# EAGLE library part DF13-7P-1.25? (library pixhawk2)
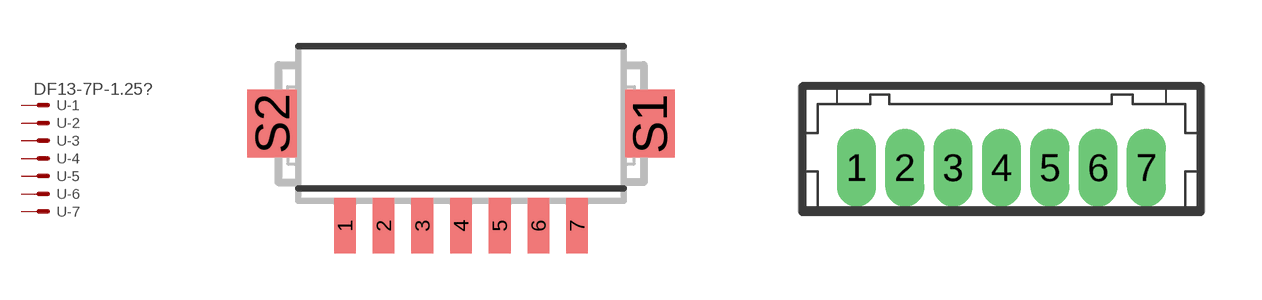
[diagram p57: symbol with the pads of DF13A-7P-1.25H; footprints DF13A-7P-1.25H, DF13-7P-1.25DSA]

Designator prefix -; gates -1=MV -2=M -3=M -4=M -5=M -6=M -7=M

## DF13-7P-1.25H  [DF13A-7P-1.25H]
1  -1:S  pas
2  -2:S  pas
3  -3:S  pas
4  -4:S  pas
5  -5:S  pas
6  -6:S  pas
7  -7:S  pas

## DF13-7P-1.25DSA  [DF13-7P-1.25DSA]
Pads as for DF13A-7P-1.25H

## Footprint DF13A-7P-1.25H (pad centres in mm)
smd 0.7 x 1.8: 1 -3.75,-3.3; 2 -2.5,-3.3; 3 -1.25,-3.3; 4 0,-3.3; 5 1.25,-3.3; 6 2.5,-3.3; 7 3.75,-3.3
smd 1.6 x 2.2: S1 6.1,0; S2 -6.1,0

## Footprint DF13-7P-1.25DSA (pad centres in mm)
drill 0.5 pad 0.8 long: 1 -3.75,0; 2 -2.5,0; 3 -1.25,0; 4 0,0; 5 1.25,0; 6 2.5,0; 7 3.75,0